# EAGLE library part 280385-1TECONNECTIVITY (library MEWA)
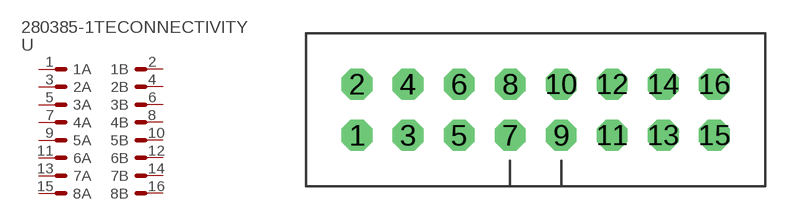
[diagram p2: symbol with the pads of 280385-1TECONNECTIVITY; footprint 280385-1TECONNECTIVITY]

Designator prefix -

## 280385-1TECONNECTIVITY  [280385-1TECONNECTIVITY]
1  1A  pas
2  1B  pas
3  2A  pas
4  2B  pas
5  3A  pas
6  3B  pas
7  4A  pas
8  4B  pas
9  5A  pas
10  5B  pas
11  6A  pas
12  6B  pas
13  7A  pas
14  7B  pas
15  8A  pas
16  8B  pas

## Footprint 280385-1TECONNECTIVITY (pad centres in mm)
PIN HEADER
drill 1.016 octagon: 1 -8.89,-1.27; 2 -8.89,1.27; 3 -6.35,-1.27; 4 -6.35,1.27; 5 -3.81,-1.27; 6 -3.81,1.27; 7 -1.27,-1.27; 8 -1.27,1.27; 9 1.27,-1.27; 10 1.27,1.27; 11 3.81,-1.27; 12 3.81,1.27; 13 6.35,-1.27; 14 6.35,1.27; 15 8.89,-1.27; 16 8.89,1.27